# Altium footprint library PcbLib1.PcbLib: 31 footprints (part 1 of 2)
Each footprint in its own frame and in the unit in brackets; x right, y up, seen from the top. Pads: shape width x height; smd on the part's side, far side on the other; paste and mask are expansions set on the pad; w line width, h text height; cw(c..) or ccw(c..) is an arc to the next point about the centre after c.
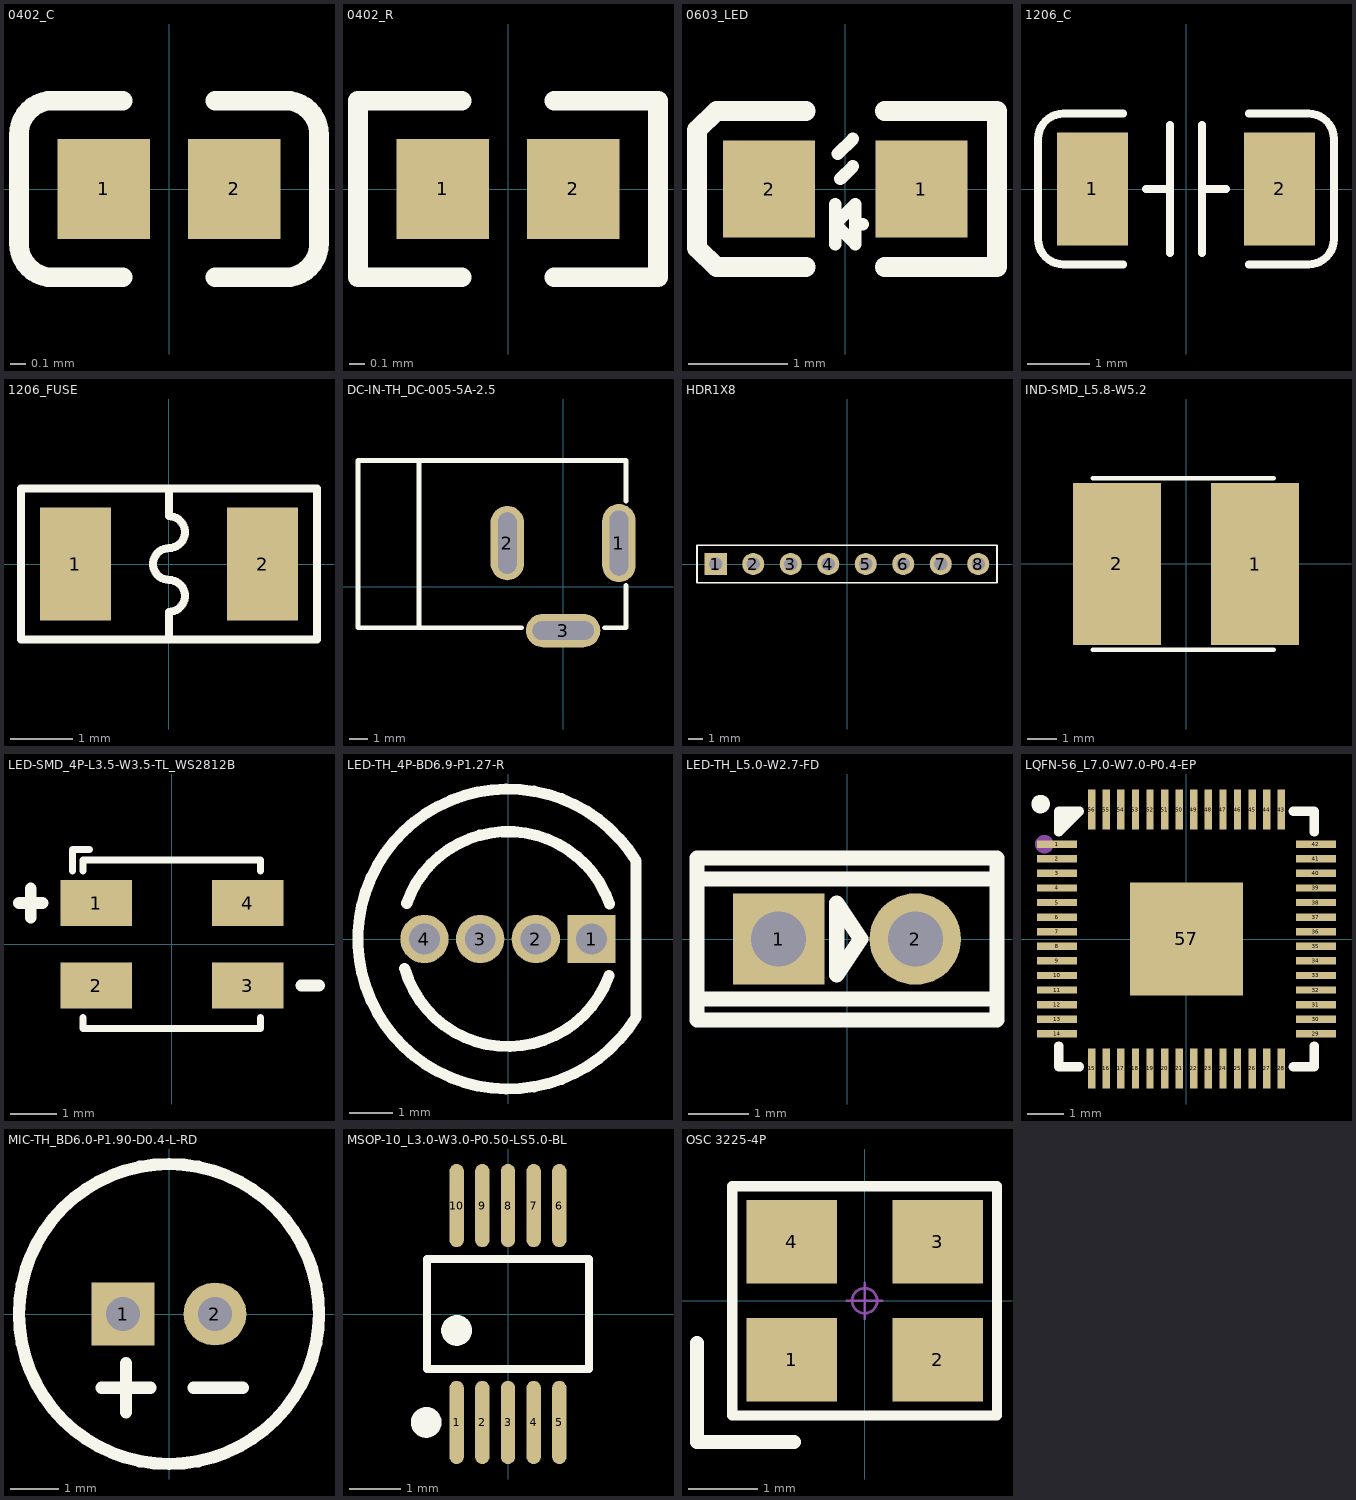
[diagram p0: the footprints below, top view; thin cyan lines are the x and y axes]

## 0402_C [mm]
pads (2):
  rect 0.6x0.65 smd mask+0.051: 1(-0.425,0) 2(0.425,0)
Top Overlay:
  lines w0.127: -0.755,-0.575 cw(c-0.755,-0.355) -0.975,-0.355 -0.975,0.355 cw(c-0.755,0.355) -0.755,0.575 ; -0.75,-0.575 -0.3,-0.575 ; -0.75,0.575 -0.3,0.575 ; 0.3,-0.575 0.75,-0.575 ; 0.3,0.575 0.75,0.575 ; 0.755,-0.575 ccw(c0.755,-0.355) 0.975,-0.355 0.975,0.355 ccw(c0.755,0.355) 0.755,0.575
3D body "0402 SMD Capacitor.step": height 0.2, standoff 0, extent -0.5,-0.3 0.5,0.3

## 0402_R [mm]
pads (2):
  rect 0.6x0.65 smd mask+0.051: 1(-0.425,0) 2(0.425,0)
Top Overlay:
  lines w0.127: -0.3,-0.575 -0.975,-0.575 -0.975,0.575 -0.3,0.575 ; 0.3,-0.575 0.975,-0.575 0.975,0.575 0.3,0.575
3D body "User Library-RES_1005-0402.STEP": height 0.41, standoff 0, extent -0.575,-0.275 0.575,0.275

## 0603_LED [mm]
pads (2):
  rect 0.93x0.98 smd: 1(0.77,0) 2(-0.77,0)
Top Overlay:
  lines w0.127: -0.102,-0.559 -0.102,-0.152 ; -0.076,0.356 0.076,0.508 ; -0.051,0.102 0.076,0.229 ; 0.127,-0.356 0.178,-0.356 ; -0.102,-0.356 0.102,-0.152 0.102,-0.559 -0.102,-0.356
  lines w0.2: -0.4,-0.79 -1.3,-0.79 -1.5,-0.597 -1.5,0.597 -1.3,0.79 -0.4,0.79 ; 0.4,-0.79 1.535,-0.79 1.535,0.79 0.4,0.79
3D body "User Library-LED_0603_R.STEP": height 0.6, standoff 0, extent -0.8,-0.4 0.8,0.4

## 1206_C [mm]
pads (2):
  rect 1.13x1.8 smd: 1(-1.49,0) 2(1.49,0)
Top Overlay:
  lines w0.127: -1,-1.2 -1.955,-1.2 cw(c-1.955,-0.8) -2.355,-0.8 -2.355,0.8 cw(c-1.955,0.8) -1.955,1.2 -1,1.2 ; -0.635,0 -0.254,0 ; -0.254,-1.016 -0.254,1.016 ; 0.254,-1.016 0.254,1.016 ; 0.254,0 0.635,0 ; 1,-1.2 1.955,-1.2 ccw(c1.955,-0.8) 2.355,-0.8 2.355,0.8 ccw(c1.955,0.8) 1.955,1.2 1,1.2
3D body "C1206.STEP": height 1, standoff 0, extent -1.602,-0.813 1.598,0.787

## 1206_FUSE [mm]
pads (2):
  rect 1.13x1.8 smd: 1(-1.49,0) 2(1.49,0)
Top Overlay:
  lines w0.127: 0,-1.143 0,-0.762 ccw(c0,-0.508) 0,-0.254 cw(c0,0) 0,0.254 ccw(c0,0.508) 0,0.762 0,1.143 ; -2.355,-1.2 -2.355,1.2 2.355,1.2 2.355,-1.2 -2.355,-1.2
3D body "User Library-Litttlefuse 1206.STEP": height 1.63, standoff -0.03, extent -1.601,-0.726 1.601,0.726

## arduino [mm]

## DC-IN-TH_DC-005-5A-2.5 [mm]
pads (3):
  oval 1.8x4.2 hole 1 slot 3.5 at 90 deg: 1(3,2.352)
  oval 1.8x4 hole 1 slot 3.3 at 90 deg: 2(-3,2.352)
  oval 4x1.8 hole 1 slot 3.3 at 0 deg: 3(0,-2.352)
Top Overlay:
  lines w0.254: -11.028,6.797 3.38,6.797 3.38,4.617 ; -11.028,6.805 -11.028,-2.195 -2.22,-2.195 ; -7.747,-2.203 -7.747,6.797 ; 2.22,-2.195 3.38,-2.195 3.38,0.087

## HDR1X8 [mm] "Connector; Header; 8 Position"
height 1
pads (8):
  rect 1.5x1.5 hole 0.9: 1(-8.89,0)
  round 1.5 hole 0.9: 2(-6.35,0) 3(-3.81,0) 4(-1.27,0) 5(1.27,0) 6(3.81,0) 7(6.35,0) 8(8.89,0)
Top Overlay:
  lines w0.127: -10.16,-1.27 10.16,-1.27 10.16,1.27 -10.16,1.27 -10.16,-1.27
3D body "1001-8.STEP": height 8.54, standoff -3, extent -10.16,-1.27 10.16,1.27

## IND-SMD_L5.8-W5.2 [mm]
pads (2):
  rect 3x5.5 smd: 1(2.35,0) 2(-2.351,0)
Top Overlay:
  lines w0.152: -3.175,-2.921 2.977,-2.921 ; -3.175,2.921 2.977,2.921
Top Paste:
  region: -2.972,-2.6 -2.972,2.6 -0.772,2.6 -0.772,-2.6
  region: 2.972,2.6 2.972,-2.6 0.772,-2.6 0.772,2.6

## LED-SMD_4P-L3.5-W3.5-TL_WS2812B [mm]
pads (4):
  rect 1.545x0.997 smd: 1(-1.638,0.89) 2(-1.638,-0.89) 3(1.638,-0.89) 4(1.638,0.89)
Top Overlay:
  lines w0.152: -2.145,1.579 -2.145,2.045 -1.777,2.045 ; -1.916,-1.579 -1.916,-1.816 1.916,-1.816 1.916,-1.579 ; -1.916,1.579 -1.916,1.816 1.916,1.816 1.916,1.579
  lines w0.254: -3.302,0.889 -2.794,0.889 ; -3.048,0.572 -3.048,1.206 ; 2.794,-0.889 3.175,-0.889

## LED-TH_4P-BD6.9-P1.27-R [mm]
pads (4):
  rect 1.1x1.1 hole 0.7: 1(1.905,0)
  round 1.1 hole 0.7: 2(0.635,0) 3(-0.635,0) 4(-1.905,0)
Top Overlay:
  lines w0.254: -2.356,-0.672 ccw(c0,0) 2.302,-0.839 ; -2.31,0.816 cw(c0,0) 2.314,0.805 ; 2.921,-1.778 cw(c0,0) 2.921,1.778 2.921,-1.778

## LED-TH_L5.0-W2.7-FD [mil]
pads (2):
  rect 60x60 hole 36: 1(-44.88,0)
  round 60 hole 36: 2(44.88,0)
Top Overlay:
  lines w10: -98.43,39.37 98.42,39.37 ; -98.42,-39.37 98.42,-39.37 ; -98.42,-53.15 -98.42,53.15 98.42,53.15 98.42,-53.15 -98.42,-53.15 ; -6.69,-23.62 9.05,0 -6.69,23.62 -6.69,-23.62

## LQFN-56_L7.0-W7.0-P0.4-EP [mm]
pads (57):
  rect 1.1x0.2 smd: 1(-3.55,2.6) 2(-3.55,2.2) 3(-3.55,1.8) 4(-3.55,1.4) 5(-3.55,1) 6(-3.55,0.6) 7(-3.55,0.2) 8(-3.55,-0.2) 9(-3.55,-0.6) 10(-3.55,-1) 11(-3.55,-1.4) 12(-3.55,-1.8) 13(-3.55,-2.2) 14(-3.55,-2.6) 29(3.55,-2.6) 30(3.55,-2.2) 31(3.55,-1.8) 32(3.55,-1.4) 33(3.55,-1) 34(3.55,-0.6) 35(3.55,-0.2) 36(3.55,0.2) 37(3.55,0.6) 38(3.55,1) 39(3.55,1.4) 40(3.55,1.8) 41(3.55,2.2) 42(3.55,2.6)
  rect 0.2x1.1 smd: 15(-2.6,-3.55) 16(-2.2,-3.55) 17(-1.8,-3.55) 18(-1.4,-3.55) 19(-1,-3.55) 20(-0.6,-3.55) 21(-0.2,-3.55) 22(0.2,-3.55) 23(0.6,-3.55) 24(1,-3.55) 25(1.4,-3.55) 26(1.8,-3.55) 27(2.2,-3.55) 28(2.6,-3.55) 43(2.6,3.55) 44(2.2,3.55) 45(1.8,3.55) 46(1.4,3.55) 47(1,3.55) 48(0.6,3.55) 49(0.2,3.55) 50(-0.2,3.55) 51(-0.6,3.55) 52(-1,3.55) 53(-1.4,3.55) 54(-1.8,3.55) 55(-2.2,3.55) 56(-2.6,3.55)
  rect 3.1x3.1 smd: 57(0,0)
Top Overlay:
  circle w0.254: c-4,3.7 r0.127
  lines w0.254: -3.5,-2.931 -3.5,-3.5 -3.4,-3.5 -2.931,-3.5 ; -3.5,3.144 -3.241,3.403 -3.241,3.5 ; 2.931,-3.5 3.5,-3.5 3.5,-2.931 ; 2.931,3.5 3.5,3.5 3.5,2.931 ; -3.5,2.931 -2.931,3.5 -3.5,3.5 -3.5,2.931
Mechanical 15:
  circle w0.254: c-3.9,2.6 r0.127

## MIC-TH_BD6.0-P1.90-D0.4-L-RD [mm]
pads (2):
  rect 1.3x1.3 hole 0.7: 1(-0.95,0)
  round 1.3 hole 0.7: 2(0.95,0)
Top Overlay:
  circle w0.254: c0,0 r3.1
  lines w0.254: -1.397,-1.524 -0.381,-1.524 ; -0.889,-2.032 -0.889,-1.016 ; 0.508,-1.524 1.524,-1.524

## MSOP-10_L3.0-W3.0-P0.50-LS5.0-BL [mm]
pads (10):
  oval 0.28x1.62 smd: 1(-1,-2.11) 2(-0.5,-2.11) 3(0,-2.11) 4(0.5,-2.11) 5(1,-2.11) 6(1,2.11) 7(0.5,2.11) 8(0,2.11) 9(-0.5,2.11) 10(-1,2.11)
Top Overlay:
  circle w0.3: c-1,-0.319 r0.15
  circle w0.3: c-1.592,-2.11 r0.15
  lines w0.152: -1.576,-1.071 -1.576,1.071 1.576,1.071 1.576,-1.071 -1.576,-1.071

## OSC 3225-4P [mm] "3.2*2.5*0.7mm(长宽高)"
pads (4):
  rect 1.3x1.2 smd: 1(-1.05,-0.85) 2(1.05,-0.85) 3(1.05,0.85) 4(-1.05,0.85)
Top Overlay:
  lines w0.15: -1.905,-1.651 1.905,-1.651 1.905,1.651 -1.905,1.651 -1.905,-1.651
  lines w0.2: -2.413,-0.61 -2.413,-2.032 -1.016,-2.032
Mechanical 15:
  circle w0.04: c0,0 r0.18
  lines w0.04: -0.254,0 0.254,0 ; 0,-0.254 0,0.254
3D body "OSC 3225-4.STEP": height 0.7, standoff -0.02, extent -1.6,-1.25 1.6,1.25